# EAGLE library part DRV883* (library CougsInSpace-IC-Other)
H-Bridge Driver DRV883x <https://github.com/CougsInSpace/Resources/blob/master/SupplierDocuments/Ti/DRV8837_HBridge.pdf>
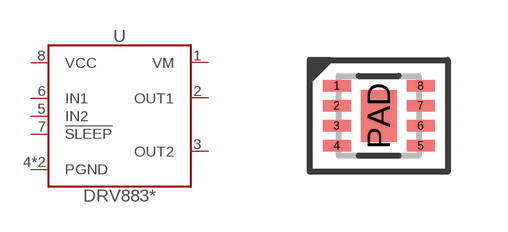
[diagram p0: symbol with the pads of WSON-8; footprint WSON-8]

Designator prefix U

## DRV8837 (CONTROL: PWM; SKU: 62-0003; VALUE: DRV8837)  [WSON-8]
1  VM  pwr
2  OUT1  out
3  OUT2  out
4  PGND  pwr
5  IN2  in
6  IN1  in
7  !SLEEP  in
8  VCC  pwr
PAD  PGND  pwr

## Footprint WSON-8 (pad centres in mm)
Very Very Thin Small Outline No Lead Package (WSON) - 8 Pins
smd 0.7 x 0.29: 1 -1.05,0.75; 2 -1.05,0.25; 3 -1.05,-0.25; 4 -1.05,-0.75; 5 1.05,-0.75; 6 1.05,-0.25; 7 1.05,0.25; 8 1.05,0.75
smd 0.9 x 1.3: PAD 0,0